# EAGLE library part 5566_6 (library Molex)
Molex™ 5566 Series 6Pin Connector
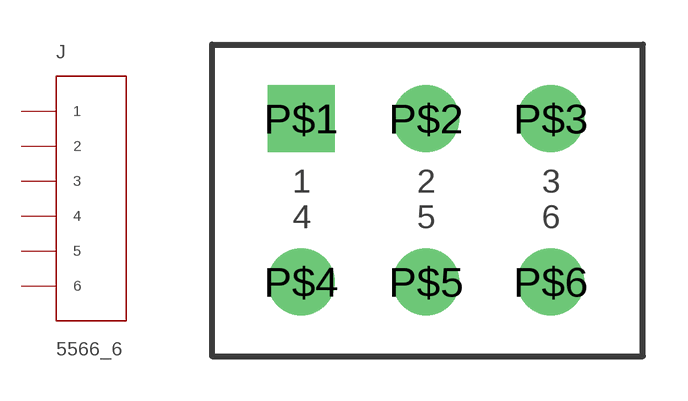
[diagram p0: symbol with the pads of 5566_6; footprint 5566_6]

Designator prefix J

## 5566_6  [5566_6]
P$1  1
P$2  2
P$3  3
P$4  4
P$5  5
P$6  6

## Footprint 5566_6 (pad centres in mm)
drill 1.5 square: P$1 0,5.5
drill 1.5: P$2 4.2,5.5; P$3 8.4,5.5; P$4 0,0; P$5 4.2,0; P$6 8.4,0